# EAGLE library part AT45DB642DSERIAL (library aurigaBot)
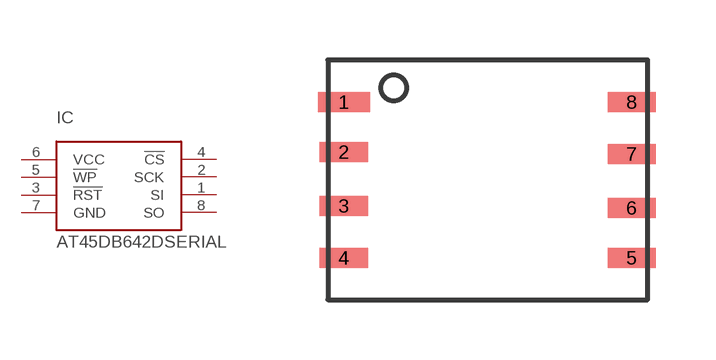
[diagram p8: symbol with the pads of CASON; footprint CASON]

Designator prefix IC

## AT45DB642DSERIAL  [CASON]
1  SI
2  SCK
3  !RST
4  !CS
5  !WP
6  VCC
7  GND
8  SO

## Footprint CASON (pad centres in mm)
smd 1.3 x 0.5: 1 -3.6,1.95
smd 1.2 x 0.5: 2 -3.6,0.7; 3 -3.6,-0.65; 4 -3.6,-1.95; 5 3.6,-1.95; 6 3.6,-0.7; 7 3.6,0.65; 8 3.6,1.95